# Altium integrated library Silicon Labs Automotive & Industrial MCUs.IntLib: 240 symbols (part 6 of 8)
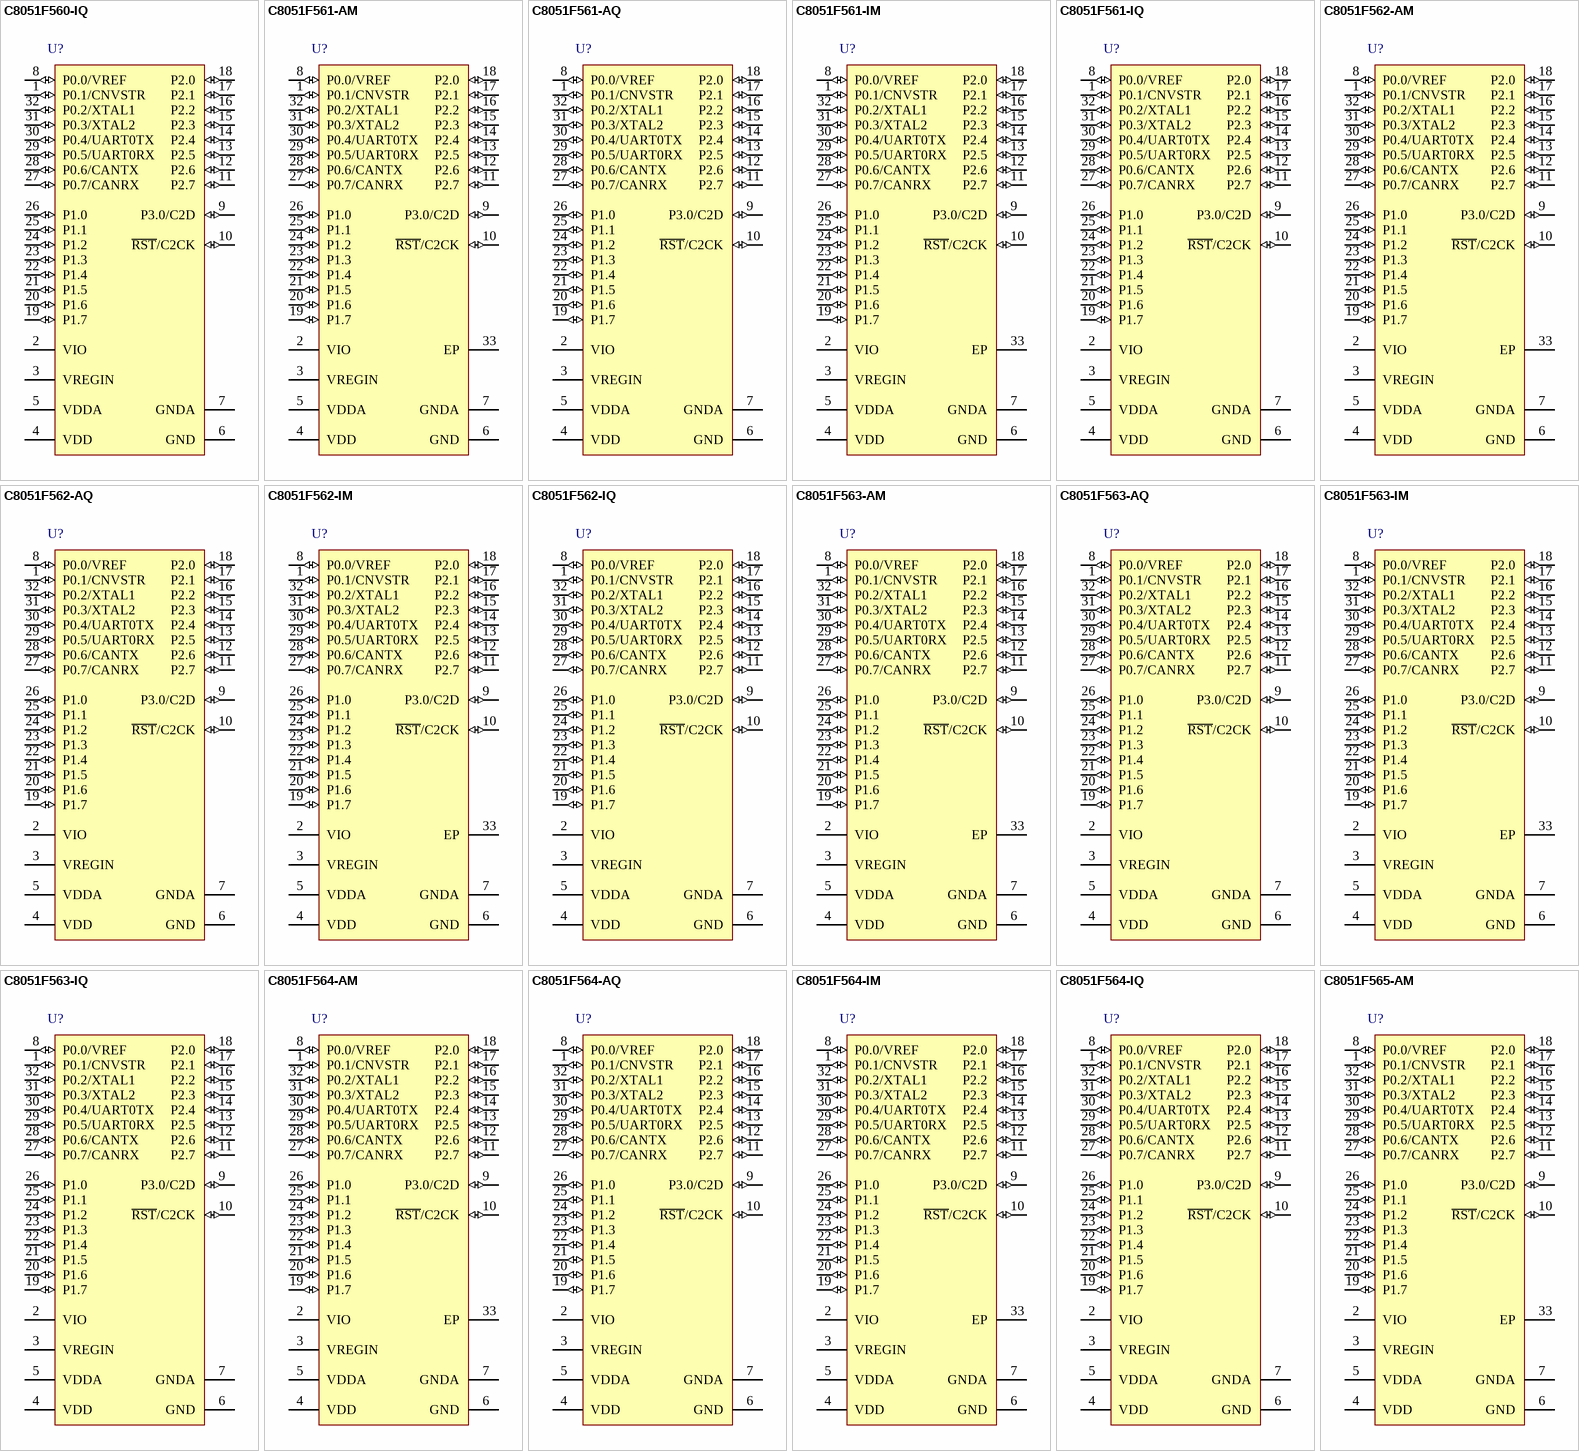
[diagram p18: symbols C8051F560-IQ to C8051F565-AM]

## C8051F563-IQ
designator U?
Mixed Signal 32KB Flash ISP MCU, 2304B RAM, 25 I/Os, 12-Bit 25 Channel ADC, I2C, 32-Pin QFP, Industrial Grade; Manufacturer: Silicon Labs; PartNumber: C8051F563-IQ; DatasheetVersion: rev1.1, 2011; PackageVersion: 2007; PackageReference: LQFP-32; PackageDescription: 32-Pin Thin Quad Flat Pack, 7 x 7 x 1.4 mm Body, 0.8 mm Pitch; Supplier 1: Digi-Key; Supplier Part Number 1: 336-1700-ND; Supplier 2: Mouser; Supplier Part Number 2: 634-C8051F563-IQ; ComponentLink1Description: Manufacturer URL; ComponentLink1URL: http://www.silabs.com; ComponentLink2Description: Datasheet; ComponentLink2URL: http://www.silabs.com/Support%20Documents/TechnicalDocs/C8051F55x-F56x-F57x.pdf
footprint LQFP-32_N (Thin QFP, 32-Leads, Body 7x7mm, Pitch 0.8mm, IPC Medium Density)
footprint LQFP-32_L (Thin QFP, 32-Leads, Body 7x7mm, Pitch 0.8mm, IPC High Density)
footprint LQFP-32_M (Thin QFP, 32-Leads, Body 7x7mm, Pitch 0.8mm, IPC Low Density)
pins: 1 P0.1/CNVSTR (io), 2 VIO (power), 3 VREGIN (power), 4 VDD (power), 5 VDDA (power), 6 GND (power), 7 GNDA (power), 8 P0.0/VREF (io), 9 P3.0/C2D (io), 10 ~{RST}/C2CK (io), 11 P2.7 (io), 12 P2.6 (io), 13 P2.5 (io), 14 P2.4 (io), 15 P2.3 (io), 16 P2.2 (io), 17 P2.1 (io), 18 P2.0 (io), 19 P1.7 (io), 20 P1.6 (io), 21 P1.5 (io), 22 P1.4 (io), 23 P1.3 (io), 24 P1.2 (io), 25 P1.1 (io), 26 P1.0 (io), 27 P0.7/CANRX (io), 28 P0.6/CANTX (io), 29 P0.5/UART0RX (io), 30 P0.4/UART0TX (io), 31 P0.3/XTAL2 (io), 32 P0.2/XTAL1 (io)

## C8051F564-AM
designator U?
Mixed Signal 16KB Flash ISP MCU, 2304B RAM, 25 I/Os, 12-Bit 25 Channel ADC, CAN 2.0, LIN 2.1, 32-Pin QFN, Automotive Grade; Manufacturer: Silicon Labs; PartNumber: C8051F564-AM; DatasheetVersion: rev1.1, 2011; PackageVersion: 2011; PackageReference: QFN-32; PackageDescription: 32-Pin Quad Flat No-Lead, 5 x 5 x 0.9 mm Body, 0.5 mm Pitch; Code_JEDEC: MO-220-VHHD; ComponentLink1Description: Manufacturer URL; ComponentLink1URL: http://www.silabs.com; ComponentLink2Description: Datasheet; ComponentLink2URL: http://www.silabs.com/Support%20Documents/TechnicalDocs/C8051F55x-F56x-F57x.pdf
footprint QFN-32_V (QFN, 32-Leads, Body 5x5mm, Pitch 0.5mm, Thermal Pad 3.3x3.3mm, Silicon Labs Recommended)
pins: 1 P0.1/CNVSTR (io), 2 VIO (power), 3 VREGIN (power), 4 VDD (power), 5 VDDA (power), 6 GND (power), 7 GNDA (power), 8 P0.0/VREF (io), 9 P3.0/C2D (io), 10 ~{RST}/C2CK (io), 11 P2.7 (io), 12 P2.6 (io), 13 P2.5 (io), 14 P2.4 (io), 15 P2.3 (io), 16 P2.2 (io), 17 P2.1 (io), 18 P2.0 (io), 19 P1.7 (io), 20 P1.6 (io), 21 P1.5 (io), 22 P1.4 (io), 23 P1.3 (io), 24 P1.2 (io), 25 P1.1 (io), 26 P1.0 (io), 27 P0.7/CANRX (io), 28 P0.6/CANTX (io), 29 P0.5/UART0RX (io), 30 P0.4/UART0TX (io), 31 P0.3/XTAL2 (io), 32 P0.2/XTAL1 (io), 33 EP (power)

## C8051F564-AQ
designator U?
Mixed Signal 16KB Flash ISP MCU, 2304B RAM, 25 I/Os, 12-Bit 25 Channel ADC, CAN 2.0, LIN 2.1, 32-Pin QFP, Automotive Grade; Manufacturer: Silicon Labs; PartNumber: C8051F564-AQ; DatasheetVersion: rev1.1, 2011; PackageVersion: 2007; PackageReference: LQFP-32; PackageDescription: 32-Pin Thin Quad Flat Pack, 7 x 7 x 1.4 mm Body, 0.8 mm Pitch; ComponentLink1Description: Manufacturer URL; ComponentLink1URL: http://www.silabs.com; ComponentLink2Description: Datasheet; ComponentLink2URL: http://www.silabs.com/Support%20Documents/TechnicalDocs/C8051F55x-F56x-F57x.pdf
footprint LQFP-32_N (Thin QFP, 32-Leads, Body 7x7mm, Pitch 0.8mm, IPC Medium Density)
footprint LQFP-32_L (Thin QFP, 32-Leads, Body 7x7mm, Pitch 0.8mm, IPC High Density)
footprint LQFP-32_M (Thin QFP, 32-Leads, Body 7x7mm, Pitch 0.8mm, IPC Low Density)
pins: 1 P0.1/CNVSTR (io), 2 VIO (power), 3 VREGIN (power), 4 VDD (power), 5 VDDA (power), 6 GND (power), 7 GNDA (power), 8 P0.0/VREF (io), 9 P3.0/C2D (io), 10 ~{RST}/C2CK (io), 11 P2.7 (io), 12 P2.6 (io), 13 P2.5 (io), 14 P2.4 (io), 15 P2.3 (io), 16 P2.2 (io), 17 P2.1 (io), 18 P2.0 (io), 19 P1.7 (io), 20 P1.6 (io), 21 P1.5 (io), 22 P1.4 (io), 23 P1.3 (io), 24 P1.2 (io), 25 P1.1 (io), 26 P1.0 (io), 27 P0.7/CANRX (io), 28 P0.6/CANTX (io), 29 P0.5/UART0RX (io), 30 P0.4/UART0TX (io), 31 P0.3/XTAL2 (io), 32 P0.2/XTAL1 (io)

## C8051F564-IM
designator U?
Mixed Signal 16KB Flash ISP MCU, 2304B RAM, 25 I/Os, 12-Bit 25 Channel ADC, CAN 2.0, LIN 2.1, 32-Pin QFN, Industrial Grade; Manufacturer: Silicon Labs; PartNumber: C8051F564-IM; DatasheetVersion: rev1.1, 2011; PackageVersion: 2011; PackageReference: QFN-32; PackageDescription: 32-Pin Quad Flat No-Lead, 5 x 5 x 0.9 mm Body, 0.5 mm Pitch; Supplier 1: Digi-Key; Supplier Part Number 1: 336-1701-5-ND; Supplier 2: Mouser; Supplier Part Number 2: 634-C8051F564-IM; Code_JEDEC: MO-220-VHHD; ComponentLink1Description: Manufacturer URL; ComponentLink1URL: http://www.silabs.com; ComponentLink2Description: Datasheet; ComponentLink2URL: http://www.silabs.com/Support%20Documents/TechnicalDocs/C8051F55x-F56x-F57x.pdf
footprint QFN-32_V (QFN, 32-Leads, Body 5x5mm, Pitch 0.5mm, Thermal Pad 3.3x3.3mm, Silicon Labs Recommended)
pins: 1 P0.1/CNVSTR (io), 2 VIO (power), 3 VREGIN (power), 4 VDD (power), 5 VDDA (power), 6 GND (power), 7 GNDA (power), 8 P0.0/VREF (io), 9 P3.0/C2D (io), 10 ~{RST}/C2CK (io), 11 P2.7 (io), 12 P2.6 (io), 13 P2.5 (io), 14 P2.4 (io), 15 P2.3 (io), 16 P2.2 (io), 17 P2.1 (io), 18 P2.0 (io), 19 P1.7 (io), 20 P1.6 (io), 21 P1.5 (io), 22 P1.4 (io), 23 P1.3 (io), 24 P1.2 (io), 25 P1.1 (io), 26 P1.0 (io), 27 P0.7/CANRX (io), 28 P0.6/CANTX (io), 29 P0.5/UART0RX (io), 30 P0.4/UART0TX (io), 31 P0.3/XTAL2 (io), 32 P0.2/XTAL1 (io), 33 EP (power)

## C8051F564-IQ
designator U?
Mixed Signal 16KB Flash ISP MCU, 2304B RAM, 25 I/Os, 12-Bit 25 Channel ADC, CAN 2.0, LIN 2.1, 32-Pin QFP, Industrial Grade; Manufacturer: Silicon Labs; PartNumber: C8051F564-IQ; DatasheetVersion: rev1.1, 2011; PackageVersion: 2007; PackageReference: LQFP-32; PackageDescription: 32-Pin Thin Quad Flat Pack, 7 x 7 x 1.4 mm Body, 0.8 mm Pitch; Supplier 1: Digi-Key; Supplier Part Number 1: 336-1702-ND; Supplier 2: Mouser; Supplier Part Number 2: 634-C8051F564-IQ; ComponentLink1Description: Manufacturer URL; ComponentLink1URL: http://www.silabs.com; ComponentLink2Description: Datasheet; ComponentLink2URL: http://www.silabs.com/Support%20Documents/TechnicalDocs/C8051F55x-F56x-F57x.pdf
footprint LQFP-32_N (Thin QFP, 32-Leads, Body 7x7mm, Pitch 0.8mm, IPC Medium Density)
footprint LQFP-32_L (Thin QFP, 32-Leads, Body 7x7mm, Pitch 0.8mm, IPC High Density)
footprint LQFP-32_M (Thin QFP, 32-Leads, Body 7x7mm, Pitch 0.8mm, IPC Low Density)
pins: 1 P0.1/CNVSTR (io), 2 VIO (power), 3 VREGIN (power), 4 VDD (power), 5 VDDA (power), 6 GND (power), 7 GNDA (power), 8 P0.0/VREF (io), 9 P3.0/C2D (io), 10 ~{RST}/C2CK (io), 11 P2.7 (io), 12 P2.6 (io), 13 P2.5 (io), 14 P2.4 (io), 15 P2.3 (io), 16 P2.2 (io), 17 P2.1 (io), 18 P2.0 (io), 19 P1.7 (io), 20 P1.6 (io), 21 P1.5 (io), 22 P1.4 (io), 23 P1.3 (io), 24 P1.2 (io), 25 P1.1 (io), 26 P1.0 (io), 27 P0.7/CANRX (io), 28 P0.6/CANTX (io), 29 P0.5/UART0RX (io), 30 P0.4/UART0TX (io), 31 P0.3/XTAL2 (io), 32 P0.2/XTAL1 (io)

## C8051F565-AM
designator U?
Mixed Signal 16KB Flash ISP MCU, 2304B RAM, 25 I/Os, 12-Bit 25 Channel ADC, CAN 2.0, 32-Pin QFN, Automotive Grade; Manufacturer: Silicon Labs; PartNumber: C8051F565-AM; DatasheetVersion: rev1.1, 2011; PackageVersion: 2011; PackageReference: QFN-32; PackageDescription: 32-Pin Quad Flat No-Lead, 5 x 5 x 0.9 mm Body, 0.5 mm Pitch; Code_JEDEC: MO-220-VHHD; ComponentLink1Description: Manufacturer URL; ComponentLink1URL: http://www.silabs.com; ComponentLink2Description: Datasheet; ComponentLink2URL: http://www.silabs.com/Support%20Documents/TechnicalDocs/C8051F55x-F56x-F57x.pdf
footprint QFN-32_V (QFN, 32-Leads, Body 5x5mm, Pitch 0.5mm, Thermal Pad 3.3x3.3mm, Silicon Labs Recommended)
pins: 1 P0.1/CNVSTR (io), 2 VIO (power), 3 VREGIN (power), 4 VDD (power), 5 VDDA (power), 6 GND (power), 7 GNDA (power), 8 P0.0/VREF (io), 9 P3.0/C2D (io), 10 ~{RST}/C2CK (io), 11 P2.7 (io), 12 P2.6 (io), 13 P2.5 (io), 14 P2.4 (io), 15 P2.3 (io), 16 P2.2 (io), 17 P2.1 (io), 18 P2.0 (io), 19 P1.7 (io), 20 P1.6 (io), 21 P1.5 (io), 22 P1.4 (io), 23 P1.3 (io), 24 P1.2 (io), 25 P1.1 (io), 26 P1.0 (io), 27 P0.7/CANRX (io), 28 P0.6/CANTX (io), 29 P0.5/UART0RX (io), 30 P0.4/UART0TX (io), 31 P0.3/XTAL2 (io), 32 P0.2/XTAL1 (io), 33 EP (power)

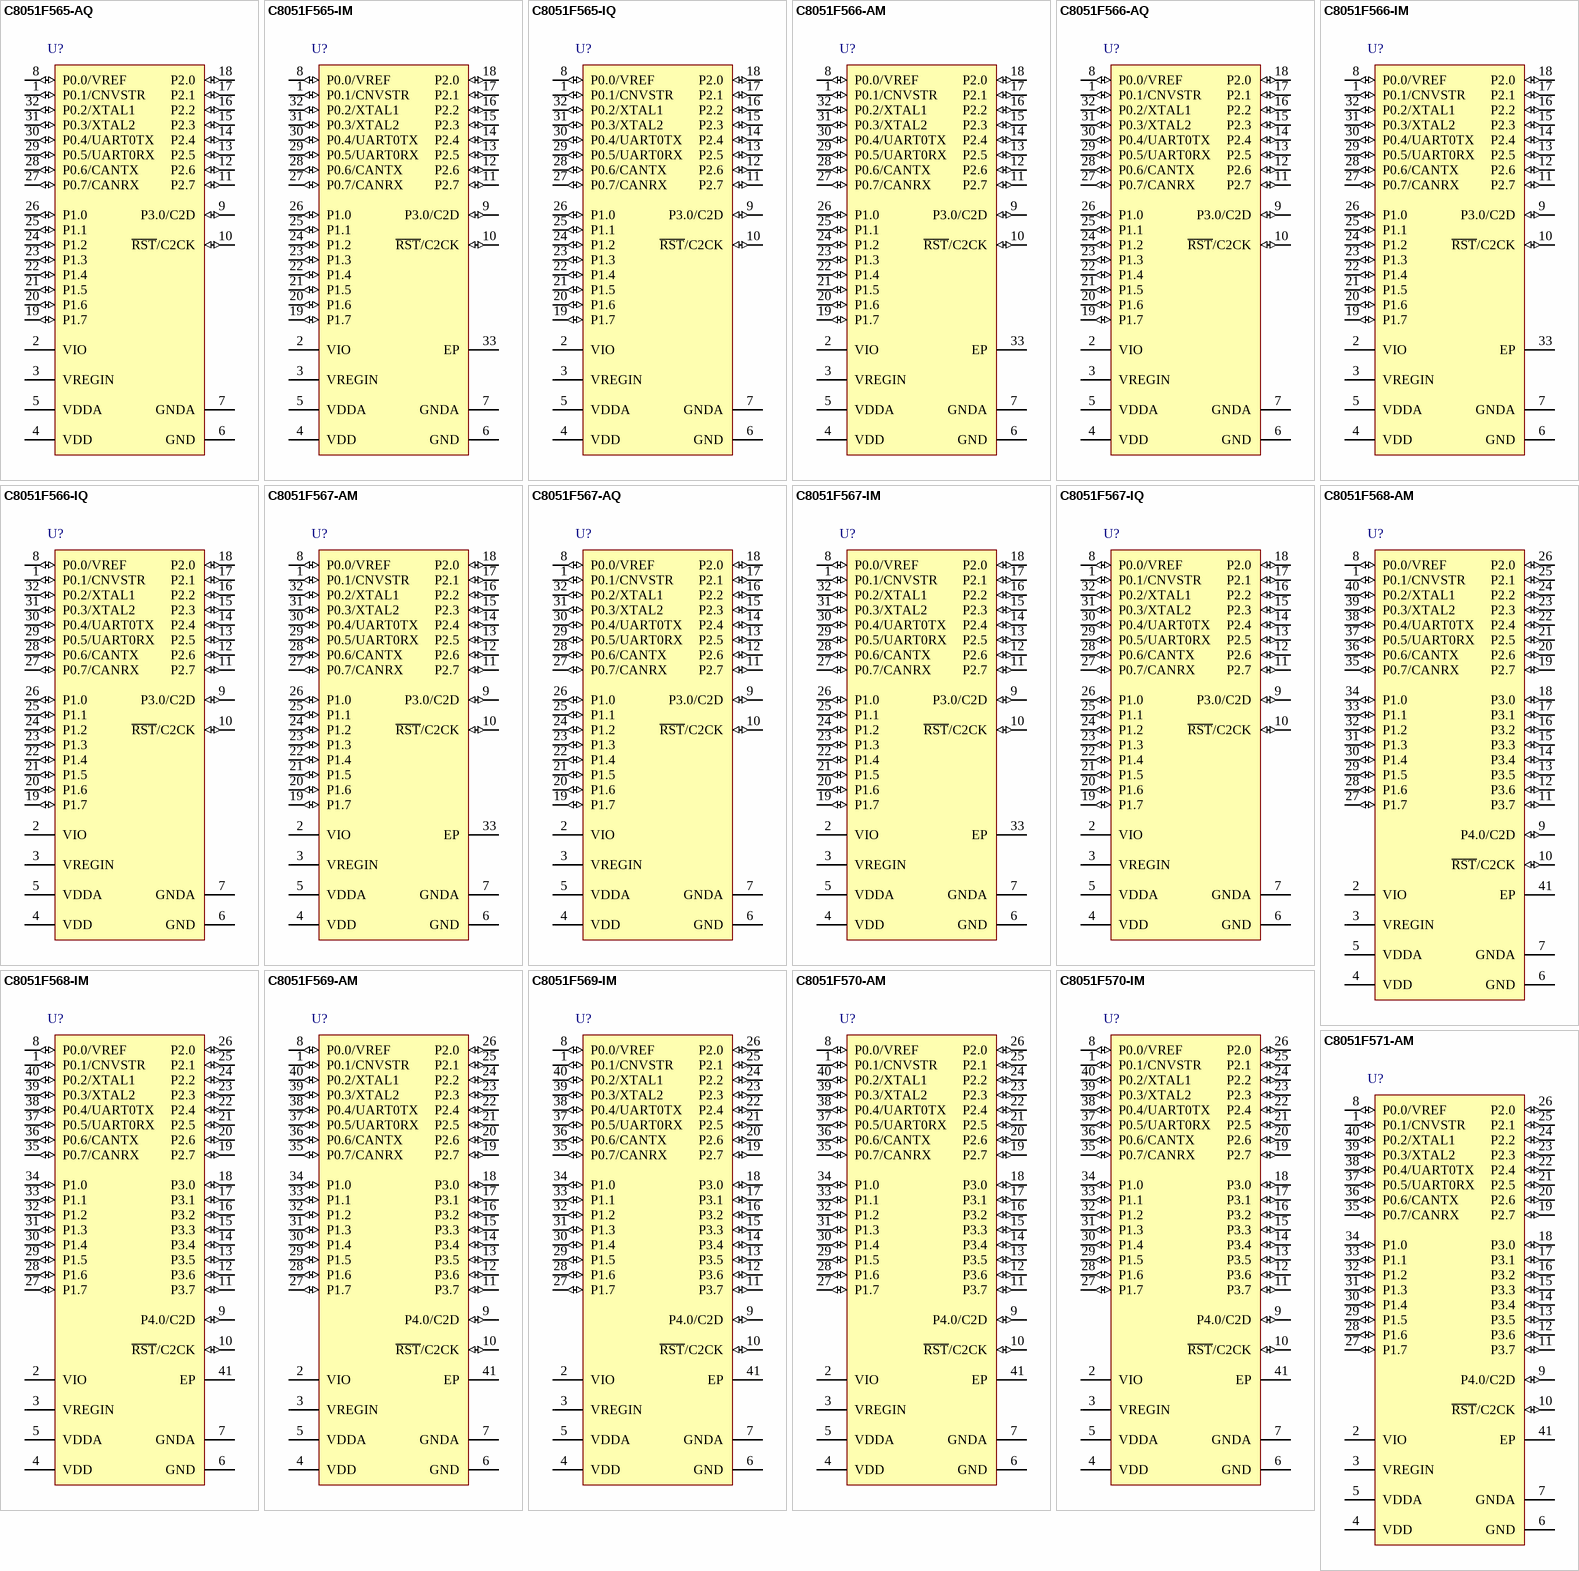
[diagram p9: symbols C8051F565-AQ to C8051F571-AM]

## C8051F565-AQ
designator U?
Mixed Signal 16KB Flash ISP MCU, 2304B RAM, 25 I/Os, 12-Bit 25 Channel ADC, CAN 2.0, 32-Pin QFP, Automotive Grade; Manufacturer: Silicon Labs; PartNumber: C8051F565-AQ; DatasheetVersion: rev1.1, 2011; PackageVersion: 2007; PackageReference: LQFP-32; PackageDescription: 32-Pin Thin Quad Flat Pack, 7 x 7 x 1.4 mm Body, 0.8 mm Pitch; ComponentLink1Description: Manufacturer URL; ComponentLink1URL: http://www.silabs.com; ComponentLink2Description: Datasheet; ComponentLink2URL: http://www.silabs.com/Support%20Documents/TechnicalDocs/C8051F55x-F56x-F57x.pdf
footprint LQFP-32_N (Thin QFP, 32-Leads, Body 7x7mm, Pitch 0.8mm, IPC Medium Density)
footprint LQFP-32_L (Thin QFP, 32-Leads, Body 7x7mm, Pitch 0.8mm, IPC High Density)
footprint LQFP-32_M (Thin QFP, 32-Leads, Body 7x7mm, Pitch 0.8mm, IPC Low Density)
pins: 1 P0.1/CNVSTR (io), 2 VIO (power), 3 VREGIN (power), 4 VDD (power), 5 VDDA (power), 6 GND (power), 7 GNDA (power), 8 P0.0/VREF (io), 9 P3.0/C2D (io), 10 ~{RST}/C2CK (io), 11 P2.7 (io), 12 P2.6 (io), 13 P2.5 (io), 14 P2.4 (io), 15 P2.3 (io), 16 P2.2 (io), 17 P2.1 (io), 18 P2.0 (io), 19 P1.7 (io), 20 P1.6 (io), 21 P1.5 (io), 22 P1.4 (io), 23 P1.3 (io), 24 P1.2 (io), 25 P1.1 (io), 26 P1.0 (io), 27 P0.7/CANRX (io), 28 P0.6/CANTX (io), 29 P0.5/UART0RX (io), 30 P0.4/UART0TX (io), 31 P0.3/XTAL2 (io), 32 P0.2/XTAL1 (io)

## C8051F565-IM
designator U?
Mixed Signal 16KB Flash ISP MCU, 2304B RAM, 25 I/Os, 12-Bit 25 Channel ADC, CAN 2.0, 32-Pin QFN, Industrial Grade; Manufacturer: Silicon Labs; PartNumber: C8051F565-IM; DatasheetVersion: rev1.1, 2011; PackageVersion: 2011; PackageReference: QFN-32; PackageDescription: 32-Pin Quad Flat No-Lead, 5 x 5 x 0.9 mm Body, 0.5 mm Pitch; Supplier 1: Digi-Key; Supplier Part Number 1: 336-1703-5-ND; Supplier 2: Mouser; Supplier Part Number 2: 634-C8051F565-IM; Code_JEDEC: MO-220-VHHD; ComponentLink1Description: Manufacturer URL; ComponentLink1URL: http://www.silabs.com; ComponentLink2Description: Datasheet; ComponentLink2URL: http://www.silabs.com/Support%20Documents/TechnicalDocs/C8051F55x-F56x-F57x.pdf
footprint QFN-32_V (QFN, 32-Leads, Body 5x5mm, Pitch 0.5mm, Thermal Pad 3.3x3.3mm, Silicon Labs Recommended)
pins: 1 P0.1/CNVSTR (io), 2 VIO (power), 3 VREGIN (power), 4 VDD (power), 5 VDDA (power), 6 GND (power), 7 GNDA (power), 8 P0.0/VREF (io), 9 P3.0/C2D (io), 10 ~{RST}/C2CK (io), 11 P2.7 (io), 12 P2.6 (io), 13 P2.5 (io), 14 P2.4 (io), 15 P2.3 (io), 16 P2.2 (io), 17 P2.1 (io), 18 P2.0 (io), 19 P1.7 (io), 20 P1.6 (io), 21 P1.5 (io), 22 P1.4 (io), 23 P1.3 (io), 24 P1.2 (io), 25 P1.1 (io), 26 P1.0 (io), 27 P0.7/CANRX (io), 28 P0.6/CANTX (io), 29 P0.5/UART0RX (io), 30 P0.4/UART0TX (io), 31 P0.3/XTAL2 (io), 32 P0.2/XTAL1 (io), 33 EP (power)

## C8051F565-IQ
designator U?
Mixed Signal 16KB Flash ISP MCU, 2304B RAM, 25 I/Os, 12-Bit 25 Channel ADC, CAN 2.0, 32-Pin QFP, Industrial Grade; Manufacturer: Silicon Labs; PartNumber: C8051F565-IQ; DatasheetVersion: rev1.1, 2011; PackageVersion: 2007; PackageReference: LQFP-32; PackageDescription: 32-Pin Thin Quad Flat Pack, 7 x 7 x 1.4 mm Body, 0.8 mm Pitch; Supplier 1: Digi-Key; Supplier Part Number 1: 336-1704-ND; Supplier 2: Mouser; Supplier Part Number 2: 634-C8051F565-IQ; ComponentLink1Description: Manufacturer URL; ComponentLink1URL: http://www.silabs.com; ComponentLink2Description: Datasheet; ComponentLink2URL: http://www.silabs.com/Support%20Documents/TechnicalDocs/C8051F55x-F56x-F57x.pdf
footprint LQFP-32_N (Thin QFP, 32-Leads, Body 7x7mm, Pitch 0.8mm, IPC Medium Density)
footprint LQFP-32_L (Thin QFP, 32-Leads, Body 7x7mm, Pitch 0.8mm, IPC High Density)
footprint LQFP-32_M (Thin QFP, 32-Leads, Body 7x7mm, Pitch 0.8mm, IPC Low Density)
pins: 1 P0.1/CNVSTR (io), 2 VIO (power), 3 VREGIN (power), 4 VDD (power), 5 VDDA (power), 6 GND (power), 7 GNDA (power), 8 P0.0/VREF (io), 9 P3.0/C2D (io), 10 ~{RST}/C2CK (io), 11 P2.7 (io), 12 P2.6 (io), 13 P2.5 (io), 14 P2.4 (io), 15 P2.3 (io), 16 P2.2 (io), 17 P2.1 (io), 18 P2.0 (io), 19 P1.7 (io), 20 P1.6 (io), 21 P1.5 (io), 22 P1.4 (io), 23 P1.3 (io), 24 P1.2 (io), 25 P1.1 (io), 26 P1.0 (io), 27 P0.7/CANRX (io), 28 P0.6/CANTX (io), 29 P0.5/UART0RX (io), 30 P0.4/UART0TX (io), 31 P0.3/XTAL2 (io), 32 P0.2/XTAL1 (io)

## C8051F566-AM
designator U?
Mixed Signal 16KB Flash ISP MCU, 2304B RAM, 25 I/Os, 12-Bit 25 Channel ADC, LIN 2.1, 32-Pin QFN, Automotive Grade; Manufacturer: Silicon Labs; PartNumber: C8051F566-AM; DatasheetVersion: rev1.1, 2011; PackageVersion: 2011; PackageReference: QFN-32; PackageDescription: 32-Pin Quad Flat No-Lead, 5 x 5 x 0.9 mm Body, 0.5 mm Pitch; Code_JEDEC: MO-220-VHHD; ComponentLink1Description: Manufacturer URL; ComponentLink1URL: http://www.silabs.com; ComponentLink2Description: Datasheet; ComponentLink2URL: http://www.silabs.com/Support%20Documents/TechnicalDocs/C8051F55x-F56x-F57x.pdf
footprint QFN-32_V (QFN, 32-Leads, Body 5x5mm, Pitch 0.5mm, Thermal Pad 3.3x3.3mm, Silicon Labs Recommended)
pins: 1 P0.1/CNVSTR (io), 2 VIO (power), 3 VREGIN (power), 4 VDD (power), 5 VDDA (power), 6 GND (power), 7 GNDA (power), 8 P0.0/VREF (io), 9 P3.0/C2D (io), 10 ~{RST}/C2CK (io), 11 P2.7 (io), 12 P2.6 (io), 13 P2.5 (io), 14 P2.4 (io), 15 P2.3 (io), 16 P2.2 (io), 17 P2.1 (io), 18 P2.0 (io), 19 P1.7 (io), 20 P1.6 (io), 21 P1.5 (io), 22 P1.4 (io), 23 P1.3 (io), 24 P1.2 (io), 25 P1.1 (io), 26 P1.0 (io), 27 P0.7/CANRX (io), 28 P0.6/CANTX (io), 29 P0.5/UART0RX (io), 30 P0.4/UART0TX (io), 31 P0.3/XTAL2 (io), 32 P0.2/XTAL1 (io), 33 EP (power)

## C8051F566-AQ
designator U?
Mixed Signal 16KB Flash ISP MCU, 2304B RAM, 25 I/Os, 12-Bit 25 Channel ADC, LIN 2.1, 32-Pin QFP, Automotive Grade; Manufacturer: Silicon Labs; PartNumber: C8051F566-AQ; DatasheetVersion: rev1.1, 2011; PackageVersion: 2007; PackageReference: LQFP-32; PackageDescription: 32-Pin Thin Quad Flat Pack, 7 x 7 x 1.4 mm Body, 0.8 mm Pitch; ComponentLink1Description: Manufacturer URL; ComponentLink1URL: http://www.silabs.com; ComponentLink2Description: Datasheet; ComponentLink2URL: http://www.silabs.com/Support%20Documents/TechnicalDocs/C8051F55x-F56x-F57x.pdf
footprint LQFP-32_N (Thin QFP, 32-Leads, Body 7x7mm, Pitch 0.8mm, IPC Medium Density)
footprint LQFP-32_L (Thin QFP, 32-Leads, Body 7x7mm, Pitch 0.8mm, IPC High Density)
footprint LQFP-32_M (Thin QFP, 32-Leads, Body 7x7mm, Pitch 0.8mm, IPC Low Density)
pins: 1 P0.1/CNVSTR (io), 2 VIO (power), 3 VREGIN (power), 4 VDD (power), 5 VDDA (power), 6 GND (power), 7 GNDA (power), 8 P0.0/VREF (io), 9 P3.0/C2D (io), 10 ~{RST}/C2CK (io), 11 P2.7 (io), 12 P2.6 (io), 13 P2.5 (io), 14 P2.4 (io), 15 P2.3 (io), 16 P2.2 (io), 17 P2.1 (io), 18 P2.0 (io), 19 P1.7 (io), 20 P1.6 (io), 21 P1.5 (io), 22 P1.4 (io), 23 P1.3 (io), 24 P1.2 (io), 25 P1.1 (io), 26 P1.0 (io), 27 P0.7/CANRX (io), 28 P0.6/CANTX (io), 29 P0.5/UART0RX (io), 30 P0.4/UART0TX (io), 31 P0.3/XTAL2 (io), 32 P0.2/XTAL1 (io)

## C8051F566-IM
designator U?
Mixed Signal 16KB Flash ISP MCU, 2304B RAM, 25 I/Os, 12-Bit 25 Channel ADC, I2C, LIN 2.1, 32-Pin QFN, Industrial Grade; Manufacturer: Silicon Labs; PartNumber: C8051F566-IM; DatasheetVersion: rev1.1, 2011; PackageVersion: 2011; PackageReference: QFN-32; PackageDescription: 32-Pin Quad Flat No-Lead, 5 x 5 x 0.9 mm Body, 0.5 mm Pitch; Supplier 1: Digi-Key; Supplier Part Number 1: 336-1705-5-ND; Supplier 2: Mouser; Supplier Part Number 2: 634-C8051F566-IM; Code_JEDEC: MO-220-VHHD; ComponentLink1Description: Manufacturer URL; ComponentLink1URL: http://www.silabs.com; ComponentLink2Description: Datasheet; ComponentLink2URL: http://www.silabs.com/Support%20Documents/TechnicalDocs/C8051F55x-F56x-F57x.pdf
footprint QFN-32_V (QFN, 32-Leads, Body 5x5mm, Pitch 0.5mm, Thermal Pad 3.3x3.3mm, Silicon Labs Recommended)
pins: 1 P0.1/CNVSTR (io), 2 VIO (power), 3 VREGIN (power), 4 VDD (power), 5 VDDA (power), 6 GND (power), 7 GNDA (power), 8 P0.0/VREF (io), 9 P3.0/C2D (io), 10 ~{RST}/C2CK (io), 11 P2.7 (io), 12 P2.6 (io), 13 P2.5 (io), 14 P2.4 (io), 15 P2.3 (io), 16 P2.2 (io), 17 P2.1 (io), 18 P2.0 (io), 19 P1.7 (io), 20 P1.6 (io), 21 P1.5 (io), 22 P1.4 (io), 23 P1.3 (io), 24 P1.2 (io), 25 P1.1 (io), 26 P1.0 (io), 27 P0.7/CANRX (io), 28 P0.6/CANTX (io), 29 P0.5/UART0RX (io), 30 P0.4/UART0TX (io), 31 P0.3/XTAL2 (io), 32 P0.2/XTAL1 (io), 33 EP (power)

## C8051F566-IQ
designator U?
Mixed Signal 16KB Flash ISP MCU, 2304B RAM, 25 I/Os, 12-Bit 25 Channel ADC, I2C, LIN 2.1, 32-Pin QFP, Industrial Grade; Manufacturer: Silicon Labs; PartNumber: C8051F566-IQ; DatasheetVersion: rev1.1, 2011; PackageVersion: 2007; PackageReference: LQFP-32; PackageDescription: 32-Pin Thin Quad Flat Pack, 7 x 7 x 1.4 mm Body, 0.8 mm Pitch; Supplier 1: Digi-Key; Supplier Part Number 1: 336-1706-ND; Supplier 2: Mouser; Supplier Part Number 2: 634-C8051F566-IQ; ComponentLink1Description: Manufacturer URL; ComponentLink1URL: http://www.silabs.com; ComponentLink2Description: Datasheet; ComponentLink2URL: http://www.silabs.com/Support%20Documents/TechnicalDocs/C8051F55x-F56x-F57x.pdf
footprint LQFP-32_N (Thin QFP, 32-Leads, Body 7x7mm, Pitch 0.8mm, IPC Medium Density)
footprint LQFP-32_L (Thin QFP, 32-Leads, Body 7x7mm, Pitch 0.8mm, IPC High Density)
footprint LQFP-32_M (Thin QFP, 32-Leads, Body 7x7mm, Pitch 0.8mm, IPC Low Density)
pins: 1 P0.1/CNVSTR (io), 2 VIO (power), 3 VREGIN (power), 4 VDD (power), 5 VDDA (power), 6 GND (power), 7 GNDA (power), 8 P0.0/VREF (io), 9 P3.0/C2D (io), 10 ~{RST}/C2CK (io), 11 P2.7 (io), 12 P2.6 (io), 13 P2.5 (io), 14 P2.4 (io), 15 P2.3 (io), 16 P2.2 (io), 17 P2.1 (io), 18 P2.0 (io), 19 P1.7 (io), 20 P1.6 (io), 21 P1.5 (io), 22 P1.4 (io), 23 P1.3 (io), 24 P1.2 (io), 25 P1.1 (io), 26 P1.0 (io), 27 P0.7/CANRX (io), 28 P0.6/CANTX (io), 29 P0.5/UART0RX (io), 30 P0.4/UART0TX (io), 31 P0.3/XTAL2 (io), 32 P0.2/XTAL1 (io)

## C8051F567-AM
designator U?
Mixed Signal 16KB Flash ISP MCU, 2304B RAM, 25 I/Os, 12-Bit 25 Channel ADC, SPI, 32-Pin QFN, Automotive Grade; Manufacturer: Silicon Labs; PartNumber: C8051F567-AM; DatasheetVersion: rev1.1, 2011; PackageVersion: 2011; PackageReference: QFN-32; PackageDescription: 32-Pin Quad Flat No-Lead, 5 x 5 x 0.9 mm Body, 0.5 mm Pitch; Code_JEDEC: MO-220-VHHD; ComponentLink1Description: Manufacturer URL; ComponentLink1URL: http://www.silabs.com; ComponentLink2Description: Datasheet; ComponentLink2URL: http://www.silabs.com/Support%20Documents/TechnicalDocs/C8051F55x-F56x-F57x.pdf
footprint QFN-32_V (QFN, 32-Leads, Body 5x5mm, Pitch 0.5mm, Thermal Pad 3.3x3.3mm, Silicon Labs Recommended)
pins: 1 P0.1/CNVSTR (io), 2 VIO (power), 3 VREGIN (power), 4 VDD (power), 5 VDDA (power), 6 GND (power), 7 GNDA (power), 8 P0.0/VREF (io), 9 P3.0/C2D (io), 10 ~{RST}/C2CK (io), 11 P2.7 (io), 12 P2.6 (io), 13 P2.5 (io), 14 P2.4 (io), 15 P2.3 (io), 16 P2.2 (io), 17 P2.1 (io), 18 P2.0 (io), 19 P1.7 (io), 20 P1.6 (io), 21 P1.5 (io), 22 P1.4 (io), 23 P1.3 (io), 24 P1.2 (io), 25 P1.1 (io), 26 P1.0 (io), 27 P0.7/CANRX (io), 28 P0.6/CANTX (io), 29 P0.5/UART0RX (io), 30 P0.4/UART0TX (io), 31 P0.3/XTAL2 (io), 32 P0.2/XTAL1 (io), 33 EP (power)

## C8051F567-AQ
designator U?
Mixed Signal 16KB Flash ISP MCU, 2304B RAM, 25 I/Os, 12-Bit 25 Channel ADC, SPI, 32-Pin QFP, Automotive Grade; Manufacturer: Silicon Labs; PartNumber: C8051F567-AQ; DatasheetVersion: rev1.1, 2011; PackageVersion: 2007; PackageReference: LQFP-32; PackageDescription: 32-Pin Thin Quad Flat Pack, 7 x 7 x 1.4 mm Body, 0.8 mm Pitch; ComponentLink1Description: Manufacturer URL; ComponentLink1URL: http://www.silabs.com; ComponentLink2Description: Datasheet; ComponentLink2URL: http://www.silabs.com/Support%20Documents/TechnicalDocs/C8051F55x-F56x-F57x.pdf
footprint LQFP-32_N (Thin QFP, 32-Leads, Body 7x7mm, Pitch 0.8mm, IPC Medium Density)
footprint LQFP-32_L (Thin QFP, 32-Leads, Body 7x7mm, Pitch 0.8mm, IPC High Density)
footprint LQFP-32_M (Thin QFP, 32-Leads, Body 7x7mm, Pitch 0.8mm, IPC Low Density)
pins: 1 P0.1/CNVSTR (io), 2 VIO (power), 3 VREGIN (power), 4 VDD (power), 5 VDDA (power), 6 GND (power), 7 GNDA (power), 8 P0.0/VREF (io), 9 P3.0/C2D (io), 10 ~{RST}/C2CK (io), 11 P2.7 (io), 12 P2.6 (io), 13 P2.5 (io), 14 P2.4 (io), 15 P2.3 (io), 16 P2.2 (io), 17 P2.1 (io), 18 P2.0 (io), 19 P1.7 (io), 20 P1.6 (io), 21 P1.5 (io), 22 P1.4 (io), 23 P1.3 (io), 24 P1.2 (io), 25 P1.1 (io), 26 P1.0 (io), 27 P0.7/CANRX (io), 28 P0.6/CANTX (io), 29 P0.5/UART0RX (io), 30 P0.4/UART0TX (io), 31 P0.3/XTAL2 (io), 32 P0.2/XTAL1 (io)

## C8051F567-IM
designator U?
Mixed Signal 16KB Flash ISP MCU, 2304B RAM, 25 I/Os, 12-Bit 25 Channel ADC, I2C, 32-Pin QFN, Industrial Grade; Manufacturer: Silicon Labs; PartNumber: C8051F567-IM; DatasheetVersion: rev1.1, 2011; PackageVersion: 2011; PackageReference: QFN-32; PackageDescription: 32-Pin Quad Flat No-Lead, 5 x 5 x 0.9 mm Body, 0.5 mm Pitch; Supplier 1: Digi-Key; Supplier Part Number 1: 336-1707-5-ND; Supplier 2: Mouser; Supplier Part Number 2: 634-C8051F567-IM; Code_JEDEC: MO-220-VHHD; ComponentLink1Description: Manufacturer URL; ComponentLink1URL: http://www.silabs.com; ComponentLink2Description: Datasheet; ComponentLink2URL: http://www.silabs.com/Support%20Documents/TechnicalDocs/C8051F55x-F56x-F57x.pdf
footprint QFN-32_V (QFN, 32-Leads, Body 5x5mm, Pitch 0.5mm, Thermal Pad 3.3x3.3mm, Silicon Labs Recommended)
pins: 1 P0.1/CNVSTR (io), 2 VIO (power), 3 VREGIN (power), 4 VDD (power), 5 VDDA (power), 6 GND (power), 7 GNDA (power), 8 P0.0/VREF (io), 9 P3.0/C2D (io), 10 ~{RST}/C2CK (io), 11 P2.7 (io), 12 P2.6 (io), 13 P2.5 (io), 14 P2.4 (io), 15 P2.3 (io), 16 P2.2 (io), 17 P2.1 (io), 18 P2.0 (io), 19 P1.7 (io), 20 P1.6 (io), 21 P1.5 (io), 22 P1.4 (io), 23 P1.3 (io), 24 P1.2 (io), 25 P1.1 (io), 26 P1.0 (io), 27 P0.7/CANRX (io), 28 P0.6/CANTX (io), 29 P0.5/UART0RX (io), 30 P0.4/UART0TX (io), 31 P0.3/XTAL2 (io), 32 P0.2/XTAL1 (io), 33 EP (power)

## C8051F567-IQ
designator U?
Mixed Signal 16KB Flash ISP MCU, 2304B RAM, 25 I/Os, 12-Bit 25 Channel ADC, I2C, 32-Pin QFP, Industrial Grade; Manufacturer: Silicon Labs; PartNumber: C8051F567-IQ; DatasheetVersion: rev1.1, 2011; PackageVersion: 2007; PackageReference: LQFP-32; PackageDescription: 32-Pin Thin Quad Flat Pack, 7 x 7 x 1.4 mm Body, 0.8 mm Pitch; Supplier 1: Digi-Key; Supplier Part Number 1: 336-1708-ND; Supplier 2: Mouser; Supplier Part Number 2: 634-C8051F567-IQ; ComponentLink1Description: Manufacturer URL; ComponentLink1URL: http://www.silabs.com; ComponentLink2Description: Datasheet; ComponentLink2URL: http://www.silabs.com/Support%20Documents/TechnicalDocs/C8051F55x-F56x-F57x.pdf
footprint LQFP-32_N (Thin QFP, 32-Leads, Body 7x7mm, Pitch 0.8mm, IPC Medium Density)
footprint LQFP-32_L (Thin QFP, 32-Leads, Body 7x7mm, Pitch 0.8mm, IPC High Density)
footprint LQFP-32_M (Thin QFP, 32-Leads, Body 7x7mm, Pitch 0.8mm, IPC Low Density)
pins: 1 P0.1/CNVSTR (io), 2 VIO (power), 3 VREGIN (power), 4 VDD (power), 5 VDDA (power), 6 GND (power), 7 GNDA (power), 8 P0.0/VREF (io), 9 P3.0/C2D (io), 10 ~{RST}/C2CK (io), 11 P2.7 (io), 12 P2.6 (io), 13 P2.5 (io), 14 P2.4 (io), 15 P2.3 (io), 16 P2.2 (io), 17 P2.1 (io), 18 P2.0 (io), 19 P1.7 (io), 20 P1.6 (io), 21 P1.5 (io), 22 P1.4 (io), 23 P1.3 (io), 24 P1.2 (io), 25 P1.1 (io), 26 P1.0 (io), 27 P0.7/CANRX (io), 28 P0.6/CANTX (io), 29 P0.5/UART0RX (io), 30 P0.4/UART0TX (io), 31 P0.3/XTAL2 (io), 32 P0.2/XTAL1 (io)

## C8051F568-AM
designator U?
Mixed Signal 32KB Flash ISP MCU, 2304B RAM, 33 I/Os, 12-Bit 32 Channel ADC, CAN 2.0, LIN 2.1, Ext Mem, 40-Pin QFN, Automotive Grade; Manufacturer: Silicon Labs; PartNumber: C8051F568-AM; DatasheetVersion: rev1.1, 2011; PackageVersion: 2011; PackageReference: QFN-40; PackageDescription: 40-Pin Quad Flat No-Lead, 6 x 6 x 0.85 mm Body, 0.5 mm Pitch; Code_JEDEC: MO-220-VJJD-5; ComponentLink1Description: Manufacturer URL; ComponentLink1URL: http://www.silabs.com; ComponentLink2Description: Datasheet; ComponentLink2URL: http://www.silabs.com/Support%20Documents/TechnicalDocs/C8051F55x-F56x-F57x.pdf
footprint QFN-40_V (QFN, 40-Leads, Body 6x6mm, Pitch 0.5mm, Thermal Pad 4.15x4.15mm, Silicon Labs Recommended)
pins: 1 P0.1/CNVSTR (io), 2 VIO (power), 3 VREGIN (power), 4 VDD (power), 5 VDDA (power), 6 GND (power), 7 GNDA (power), 8 P0.0/VREF (io), 9 P4.0/C2D (io), 10 ~{RST}/C2CK (io), 11 P3.7 (io), 12 P3.6 (io), 13 P3.5 (io), 14 P3.4 (io), 15 P3.3 (io), 16 P3.2 (io), 17 P3.1 (io), 18 P3.0 (io), 19 P2.7 (io), 20 P2.6 (io), 21 P2.5 (io), 22 P2.4 (io), 23 P2.3 (io), 24 P2.2 (io), 25 P2.1 (io), 26 P2.0 (io), 27 P1.7 (io), 28 P1.6 (io), 29 P1.5 (io), 30 P1.4 (io), 31 P1.3 (io), 32 P1.2 (io), 33 P1.1 (io), 34 P1.0 (io), 35 P0.7/CANRX (io), 36 P0.6/CANTX (io), 37 P0.5/UART0RX (io), 38 P0.4/UART0TX (io), 39 P0.3/XTAL2 (io), 40 P0.2/XTAL1 (io), 41 EP (power)

## C8051F568-IM
designator U?
Mixed Signal 32KB Flash ISP MCU, 2304B RAM, 33 I/Os, 12-Bit 32 Channel ADC, CAN 2.0, LIN 2.1, Ext Mem, 40-Pin QFN, Industrial Grade; Manufacturer: Silicon Labs; PartNumber: C8051F568-IM; DatasheetVersion: rev1.1, 2011; PackageVersion: 2011; PackageReference: QFN-40; PackageDescription: 40-Pin Quad Flat No-Lead, 6 x 6 x 0.85 mm Body, 0.5 mm Pitch; Supplier 1: Digi-Key; Supplier Part Number 1: 336-1709-5-ND; Supplier 2: Mouser; Supplier Part Number 2: 634-C8051F568-IM; Code_JEDEC: MO-220-VJJD-5; ComponentLink1Description: Manufacturer URL; ComponentLink1URL: http://www.silabs.com; ComponentLink2Description: Datasheet; ComponentLink2URL: http://www.silabs.com/Support%20Documents/TechnicalDocs/C8051F55x-F56x-F57x.pdf
footprint QFN-40_V (QFN, 40-Leads, Body 6x6mm, Pitch 0.5mm, Thermal Pad 4.15x4.15mm, Silicon Labs Recommended)
pins: 1 P0.1/CNVSTR (io), 2 VIO (power), 3 VREGIN (power), 4 VDD (power), 5 VDDA (power), 6 GND (power), 7 GNDA (power), 8 P0.0/VREF (io), 9 P4.0/C2D (io), 10 ~{RST}/C2CK (io), 11 P3.7 (io), 12 P3.6 (io), 13 P3.5 (io), 14 P3.4 (io), 15 P3.3 (io), 16 P3.2 (io), 17 P3.1 (io), 18 P3.0 (io), 19 P2.7 (io), 20 P2.6 (io), 21 P2.5 (io), 22 P2.4 (io), 23 P2.3 (io), 24 P2.2 (io), 25 P2.1 (io), 26 P2.0 (io), 27 P1.7 (io), 28 P1.6 (io), 29 P1.5 (io), 30 P1.4 (io), 31 P1.3 (io), 32 P1.2 (io), 33 P1.1 (io), 34 P1.0 (io), 35 P0.7/CANRX (io), 36 P0.6/CANTX (io), 37 P0.5/UART0RX (io), 38 P0.4/UART0TX (io), 39 P0.3/XTAL2 (io), 40 P0.2/XTAL1 (io), 41 EP (power)

## C8051F569-AM
designator U?
Mixed Signal 32KB Flash ISP MCU, 2304B RAM, 33 I/Os, 12-Bit 32 Channel ADC, CAN 2.0, Ext Mem, 40-Pin QFN, Automotive Grade; Manufacturer: Silicon Labs; PartNumber: C8051F569-AM; DatasheetVersion: rev1.1, 2011; PackageVersion: 2011; PackageReference: QFN-40; PackageDescription: 40-Pin Quad Flat No-Lead, 6 x 6 x 0.85 mm Body, 0.5 mm Pitch; Code_JEDEC: MO-220-VJJD-5; ComponentLink1Description: Manufacturer URL; ComponentLink1URL: http://www.silabs.com; ComponentLink2Description: Datasheet; ComponentLink2URL: http://www.silabs.com/Support%20Documents/TechnicalDocs/C8051F55x-F56x-F57x.pdf
footprint QFN-40_V (QFN, 40-Leads, Body 6x6mm, Pitch 0.5mm, Thermal Pad 4.15x4.15mm, Silicon Labs Recommended)
pins: 1 P0.1/CNVSTR (io), 2 VIO (power), 3 VREGIN (power), 4 VDD (power), 5 VDDA (power), 6 GND (power), 7 GNDA (power), 8 P0.0/VREF (io), 9 P4.0/C2D (io), 10 ~{RST}/C2CK (io), 11 P3.7 (io), 12 P3.6 (io), 13 P3.5 (io), 14 P3.4 (io), 15 P3.3 (io), 16 P3.2 (io), 17 P3.1 (io), 18 P3.0 (io), 19 P2.7 (io), 20 P2.6 (io), 21 P2.5 (io), 22 P2.4 (io), 23 P2.3 (io), 24 P2.2 (io), 25 P2.1 (io), 26 P2.0 (io), 27 P1.7 (io), 28 P1.6 (io), 29 P1.5 (io), 30 P1.4 (io), 31 P1.3 (io), 32 P1.2 (io), 33 P1.1 (io), 34 P1.0 (io), 35 P0.7/CANRX (io), 36 P0.6/CANTX (io), 37 P0.5/UART0RX (io), 38 P0.4/UART0TX (io), 39 P0.3/XTAL2 (io), 40 P0.2/XTAL1 (io), 41 EP (power)

## C8051F569-IM
designator U?
Mixed Signal 32KB Flash ISP MCU, 2304B RAM, 33 I/Os, 12-Bit 32 Channel ADC, CAN 2.0, Ext Mem, 40-Pin QFN, Industrial Grade; Manufacturer: Silicon Labs; PartNumber: C8051F569-IM; DatasheetVersion: rev1.1, 2011; PackageVersion: 2011; PackageReference: QFN-40; PackageDescription: 40-Pin Quad Flat No-Lead, 6 x 6 x 0.85 mm Body, 0.5 mm Pitch; Supplier 1: Digi-Key; Supplier Part Number 1: 336-1710-5-ND; Supplier 2: Mouser; Supplier Part Number 2: 634-C8051F569-IM; Code_JEDEC: MO-220-VJJD-5; ComponentLink1Description: Manufacturer URL; ComponentLink1URL: http://www.silabs.com; ComponentLink2Description: Datasheet; ComponentLink2URL: http://www.silabs.com/Support%20Documents/TechnicalDocs/C8051F55x-F56x-F57x.pdf
footprint QFN-40_V (QFN, 40-Leads, Body 6x6mm, Pitch 0.5mm, Thermal Pad 4.15x4.15mm, Silicon Labs Recommended)
pins: 1 P0.1/CNVSTR (io), 2 VIO (power), 3 VREGIN (power), 4 VDD (power), 5 VDDA (power), 6 GND (power), 7 GNDA (power), 8 P0.0/VREF (io), 9 P4.0/C2D (io), 10 ~{RST}/C2CK (io), 11 P3.7 (io), 12 P3.6 (io), 13 P3.5 (io), 14 P3.4 (io), 15 P3.3 (io), 16 P3.2 (io), 17 P3.1 (io), 18 P3.0 (io), 19 P2.7 (io), 20 P2.6 (io), 21 P2.5 (io), 22 P2.4 (io), 23 P2.3 (io), 24 P2.2 (io), 25 P2.1 (io), 26 P2.0 (io), 27 P1.7 (io), 28 P1.6 (io), 29 P1.5 (io), 30 P1.4 (io), 31 P1.3 (io), 32 P1.2 (io), 33 P1.1 (io), 34 P1.0 (io), 35 P0.7/CANRX (io), 36 P0.6/CANTX (io), 37 P0.5/UART0RX (io), 38 P0.4/UART0TX (io), 39 P0.3/XTAL2 (io), 40 P0.2/XTAL1 (io), 41 EP (power)

## C8051F570-AM
designator U?
Mixed Signal 32KB Flash ISP MCU, 2304B RAM, 33 I/Os, 12-Bit 32 Channel ADC, CAN 2.0, LIN 2.1, Ext Mem, 40-Pin QFN, Automotive Grade; Manufacturer: Silicon Labs; PartNumber: C8051F570-AM; DatasheetVersion: rev1.1, 2011; PackageVersion: 2011; PackageReference: QFN-40; PackageDescription: 40-Pin Quad Flat No-Lead, 6 x 6 x 0.85 mm Body, 0.5 mm Pitch; Code_JEDEC: MO-220-VJJD-5; ComponentLink1Description: Manufacturer URL; ComponentLink1URL: http://www.silabs.com; ComponentLink2Description: Datasheet; ComponentLink2URL: http://www.silabs.com/Support%20Documents/TechnicalDocs/C8051F55x-F56x-F57x.pdf
footprint QFN-40_V (QFN, 40-Leads, Body 6x6mm, Pitch 0.5mm, Thermal Pad 4.15x4.15mm, Silicon Labs Recommended)
pins: 1 P0.1/CNVSTR (io), 2 VIO (power), 3 VREGIN (power), 4 VDD (power), 5 VDDA (power), 6 GND (power), 7 GNDA (power), 8 P0.0/VREF (io), 9 P4.0/C2D (io), 10 ~{RST}/C2CK (io), 11 P3.7 (io), 12 P3.6 (io), 13 P3.5 (io), 14 P3.4 (io), 15 P3.3 (io), 16 P3.2 (io), 17 P3.1 (io), 18 P3.0 (io), 19 P2.7 (io), 20 P2.6 (io), 21 P2.5 (io), 22 P2.4 (io), 23 P2.3 (io), 24 P2.2 (io), 25 P2.1 (io), 26 P2.0 (io), 27 P1.7 (io), 28 P1.6 (io), 29 P1.5 (io), 30 P1.4 (io), 31 P1.3 (io), 32 P1.2 (io), 33 P1.1 (io), 34 P1.0 (io), 35 P0.7/CANRX (io), 36 P0.6/CANTX (io), 37 P0.5/UART0RX (io), 38 P0.4/UART0TX (io), 39 P0.3/XTAL2 (io), 40 P0.2/XTAL1 (io), 41 EP (power)

## C8051F570-IM
designator U?
Mixed Signal 32KB Flash ISP MCU, 2304B RAM, 33 I/Os, 12-Bit 32 Channel ADC, I2C, LIN 2.1, Ext Mem, 40-Pin QFN, Industrial Grade; Manufacturer: Silicon Labs; PartNumber: C8051F570-IM; DatasheetVersion: rev1.1, 2011; PackageVersion: 2011; PackageReference: QFN-40; PackageDescription: 40-Pin Quad Flat No-Lead, 6 x 6 x 0.85 mm Body, 0.5 mm Pitch; Supplier 1: Digi-Key; Supplier Part Number 1: 336-1711-5-ND; Supplier 2: Mouser; Supplier Part Number 2: 634-C8051F570-IM; Code_JEDEC: MO-220-VJJD-5; ComponentLink1Description: Manufacturer URL; ComponentLink1URL: http://www.silabs.com; ComponentLink2Description: Datasheet; ComponentLink2URL: http://www.silabs.com/Support%20Documents/TechnicalDocs/C8051F55x-F56x-F57x.pdf
footprint QFN-40_V (QFN, 40-Leads, Body 6x6mm, Pitch 0.5mm, Thermal Pad 4.15x4.15mm, Silicon Labs Recommended)
pins: 1 P0.1/CNVSTR (io), 2 VIO (power), 3 VREGIN (power), 4 VDD (power), 5 VDDA (power), 6 GND (power), 7 GNDA (power), 8 P0.0/VREF (io), 9 P4.0/C2D (io), 10 ~{RST}/C2CK (io), 11 P3.7 (io), 12 P3.6 (io), 13 P3.5 (io), 14 P3.4 (io), 15 P3.3 (io), 16 P3.2 (io), 17 P3.1 (io), 18 P3.0 (io), 19 P2.7 (io), 20 P2.6 (io), 21 P2.5 (io), 22 P2.4 (io), 23 P2.3 (io), 24 P2.2 (io), 25 P2.1 (io), 26 P2.0 (io), 27 P1.7 (io), 28 P1.6 (io), 29 P1.5 (io), 30 P1.4 (io), 31 P1.3 (io), 32 P1.2 (io), 33 P1.1 (io), 34 P1.0 (io), 35 P0.7/CANRX (io), 36 P0.6/CANTX (io), 37 P0.5/UART0RX (io), 38 P0.4/UART0TX (io), 39 P0.3/XTAL2 (io), 40 P0.2/XTAL1 (io), 41 EP (power)

## C8051F571-AM
designator U?
Mixed Signal 32KB Flash ISP MCU, 2304B RAM, 33 I/Os, 12-Bit 32 Channel ADC, CAN 2.0, Ext Mem, 40-Pin QFN, Automotive Grade; Manufacturer: Silicon Labs; PartNumber: C8051F571-AM; DatasheetVersion: rev1.1, 2011; PackageVersion: 2011; PackageReference: QFN-40; PackageDescription: 40-Pin Quad Flat No-Lead, 6 x 6 x 0.85 mm Body, 0.5 mm Pitch; Code_JEDEC: MO-220-VJJD-5; ComponentLink1Description: Manufacturer URL; ComponentLink1URL: http://www.silabs.com; ComponentLink2Description: Datasheet; ComponentLink2URL: http://www.silabs.com/Support%20Documents/TechnicalDocs/C8051F55x-F56x-F57x.pdf
footprint QFN-40_V (QFN, 40-Leads, Body 6x6mm, Pitch 0.5mm, Thermal Pad 4.15x4.15mm, Silicon Labs Recommended)
pins: 1 P0.1/CNVSTR (io), 2 VIO (power), 3 VREGIN (power), 4 VDD (power), 5 VDDA (power), 6 GND (power), 7 GNDA (power), 8 P0.0/VREF (io), 9 P4.0/C2D (io), 10 ~{RST}/C2CK (io), 11 P3.7 (io), 12 P3.6 (io), 13 P3.5 (io), 14 P3.4 (io), 15 P3.3 (io), 16 P3.2 (io), 17 P3.1 (io), 18 P3.0 (io), 19 P2.7 (io), 20 P2.6 (io), 21 P2.5 (io), 22 P2.4 (io), 23 P2.3 (io), 24 P2.2 (io), 25 P2.1 (io), 26 P2.0 (io), 27 P1.7 (io), 28 P1.6 (io), 29 P1.5 (io), 30 P1.4 (io), 31 P1.3 (io), 32 P1.2 (io), 33 P1.1 (io), 34 P1.0 (io), 35 P0.7/CANRX (io), 36 P0.6/CANTX (io), 37 P0.5/UART0RX (io), 38 P0.4/UART0TX (io), 39 P0.3/XTAL2 (io), 40 P0.2/XTAL1 (io), 41 EP (power)

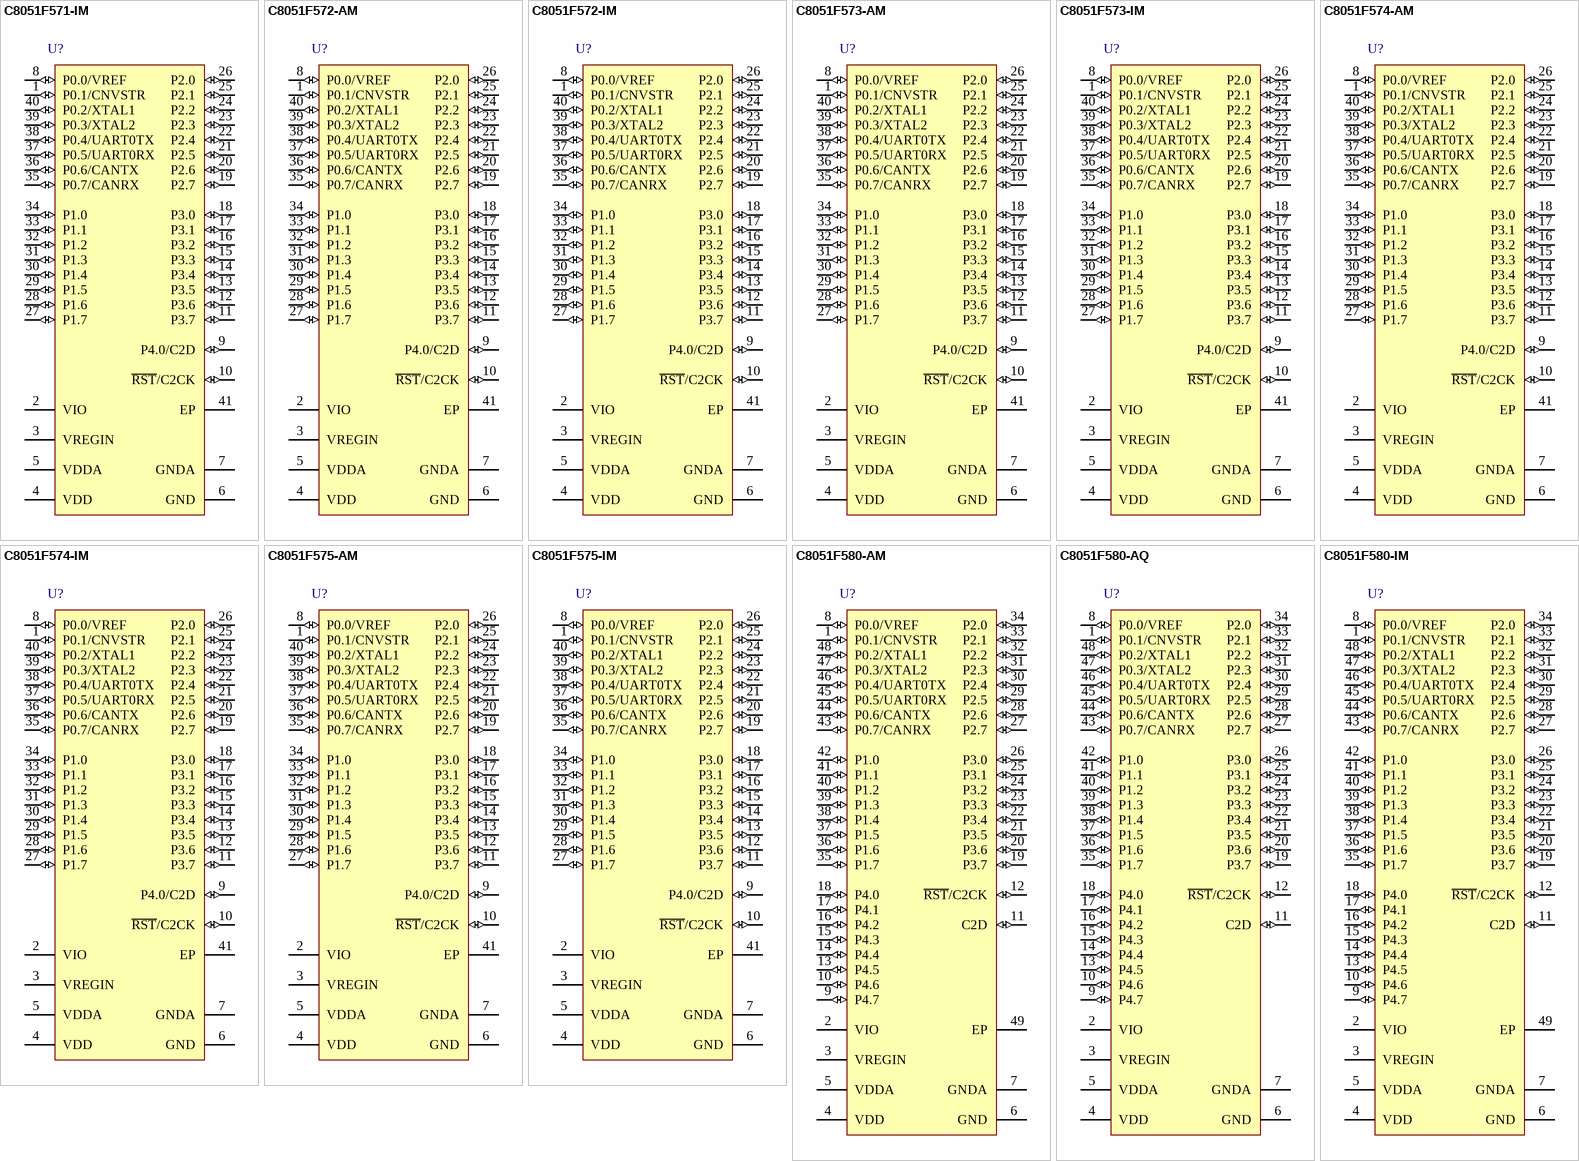
[diagram p10: symbols C8051F571-IM to C8051F580-IM]

## C8051F571-IM
designator U?
Mixed Signal 32KB Flash ISP MCU, 2304B RAM, 33 I/Os, 12-Bit 32 Channel ADC, I2C, Ext Mem, 40-Pin QFN, Industrial Grade; Manufacturer: Silicon Labs; PartNumber: C8051F571-IM; DatasheetVersion: rev1.1, 2011; PackageVersion: 2011; PackageReference: QFN-40; PackageDescription: 40-Pin Quad Flat No-Lead, 6 x 6 x 0.85 mm Body, 0.5 mm Pitch; Supplier 1: Digi-Key; Supplier Part Number 1: 336-1712-5-ND; Supplier 2: Mouser; Supplier Part Number 2: 634-C8051F571-IM; Code_JEDEC: MO-220-VJJD-5; ComponentLink1Description: Manufacturer URL; ComponentLink1URL: http://www.silabs.com; ComponentLink2Description: Datasheet; ComponentLink2URL: http://www.silabs.com/Support%20Documents/TechnicalDocs/C8051F55x-F56x-F57x.pdf
footprint QFN-40_V (QFN, 40-Leads, Body 6x6mm, Pitch 0.5mm, Thermal Pad 4.15x4.15mm, Silicon Labs Recommended)
pins: 1 P0.1/CNVSTR (io), 2 VIO (power), 3 VREGIN (power), 4 VDD (power), 5 VDDA (power), 6 GND (power), 7 GNDA (power), 8 P0.0/VREF (io), 9 P4.0/C2D (io), 10 ~{RST}/C2CK (io), 11 P3.7 (io), 12 P3.6 (io), 13 P3.5 (io), 14 P3.4 (io), 15 P3.3 (io), 16 P3.2 (io), 17 P3.1 (io), 18 P3.0 (io), 19 P2.7 (io), 20 P2.6 (io), 21 P2.5 (io), 22 P2.4 (io), 23 P2.3 (io), 24 P2.2 (io), 25 P2.1 (io), 26 P2.0 (io), 27 P1.7 (io), 28 P1.6 (io), 29 P1.5 (io), 30 P1.4 (io), 31 P1.3 (io), 32 P1.2 (io), 33 P1.1 (io), 34 P1.0 (io), 35 P0.7/CANRX (io), 36 P0.6/CANTX (io), 37 P0.5/UART0RX (io), 38 P0.4/UART0TX (io), 39 P0.3/XTAL2 (io), 40 P0.2/XTAL1 (io), 41 EP (power)

## C8051F572-AM
designator U?
Mixed Signal 16KB Flash ISP MCU, 2304B RAM, 33 I/Os, 12-Bit 32 Channel ADC, CAN 2.0, LIN 2.1, Ext Mem, 40-Pin QFN, Automotive Grade; Manufacturer: Silicon Labs; PartNumber: C8051F572-AM; DatasheetVersion: rev1.1, 2011; PackageVersion: 2011; PackageReference: QFN-40; PackageDescription: 40-Pin Quad Flat No-Lead, 6 x 6 x 0.85 mm Body, 0.5 mm Pitch; Code_JEDEC: MO-220-VJJD-5; ComponentLink1Description: Manufacturer URL; ComponentLink1URL: http://www.silabs.com; ComponentLink2Description: Datasheet; ComponentLink2URL: http://www.silabs.com/Support%20Documents/TechnicalDocs/C8051F55x-F56x-F57x.pdf
footprint QFN-40_V (QFN, 40-Leads, Body 6x6mm, Pitch 0.5mm, Thermal Pad 4.15x4.15mm, Silicon Labs Recommended)
pins: 1 P0.1/CNVSTR (io), 2 VIO (power), 3 VREGIN (power), 4 VDD (power), 5 VDDA (power), 6 GND (power), 7 GNDA (power), 8 P0.0/VREF (io), 9 P4.0/C2D (io), 10 ~{RST}/C2CK (io), 11 P3.7 (io), 12 P3.6 (io), 13 P3.5 (io), 14 P3.4 (io), 15 P3.3 (io), 16 P3.2 (io), 17 P3.1 (io), 18 P3.0 (io), 19 P2.7 (io), 20 P2.6 (io), 21 P2.5 (io), 22 P2.4 (io), 23 P2.3 (io), 24 P2.2 (io), 25 P2.1 (io), 26 P2.0 (io), 27 P1.7 (io), 28 P1.6 (io), 29 P1.5 (io), 30 P1.4 (io), 31 P1.3 (io), 32 P1.2 (io), 33 P1.1 (io), 34 P1.0 (io), 35 P0.7/CANRX (io), 36 P0.6/CANTX (io), 37 P0.5/UART0RX (io), 38 P0.4/UART0TX (io), 39 P0.3/XTAL2 (io), 40 P0.2/XTAL1 (io), 41 EP (power)

## C8051F572-IM
designator U?
Mixed Signal 16KB Flash ISP MCU, 2304B RAM, 33 I/Os, 12-Bit 32 Channel ADC, CAN 2.0, LIN 2.1, Ext Mem, 40-Pin QFN, Industrial Grade; Manufacturer: Silicon Labs; PartNumber: C8051F572-IM; DatasheetVersion: rev1.1, 2011; PackageVersion: 2011; PackageReference: QFN-40; PackageDescription: 40-Pin Quad Flat No-Lead, 6 x 6 x 0.85 mm Body, 0.5 mm Pitch; Supplier 1: Digi-Key; Supplier Part Number 1: 336-1713-5-ND; Supplier 2: Mouser; Supplier Part Number 2: 634-C8051F572-IM; Code_JEDEC: MO-220-VJJD-5; ComponentLink1Description: Manufacturer URL; ComponentLink1URL: http://www.silabs.com; ComponentLink2Description: Datasheet; ComponentLink2URL: http://www.silabs.com/Support%20Documents/TechnicalDocs/C8051F55x-F56x-F57x.pdf
footprint QFN-40_V (QFN, 40-Leads, Body 6x6mm, Pitch 0.5mm, Thermal Pad 4.15x4.15mm, Silicon Labs Recommended)
pins: 1 P0.1/CNVSTR (io), 2 VIO (power), 3 VREGIN (power), 4 VDD (power), 5 VDDA (power), 6 GND (power), 7 GNDA (power), 8 P0.0/VREF (io), 9 P4.0/C2D (io), 10 ~{RST}/C2CK (io), 11 P3.7 (io), 12 P3.6 (io), 13 P3.5 (io), 14 P3.4 (io), 15 P3.3 (io), 16 P3.2 (io), 17 P3.1 (io), 18 P3.0 (io), 19 P2.7 (io), 20 P2.6 (io), 21 P2.5 (io), 22 P2.4 (io), 23 P2.3 (io), 24 P2.2 (io), 25 P2.1 (io), 26 P2.0 (io), 27 P1.7 (io), 28 P1.6 (io), 29 P1.5 (io), 30 P1.4 (io), 31 P1.3 (io), 32 P1.2 (io), 33 P1.1 (io), 34 P1.0 (io), 35 P0.7/CANRX (io), 36 P0.6/CANTX (io), 37 P0.5/UART0RX (io), 38 P0.4/UART0TX (io), 39 P0.3/XTAL2 (io), 40 P0.2/XTAL1 (io), 41 EP (power)

## C8051F573-AM
designator U?
Mixed Signal 16KB Flash ISP MCU, 2304B RAM, 33 I/Os, 12-Bit 32 Channel ADC, CAN 2.0, Ext Mem, 40-Pin QFN, Automotive Grade; Manufacturer: Silicon Labs; PartNumber: C8051F573-AM; DatasheetVersion: rev1.1, 2011; PackageVersion: 2011; PackageReference: QFN-40; PackageDescription: 40-Pin Quad Flat No-Lead, 6 x 6 x 0.85 mm Body, 0.5 mm Pitch; Code_JEDEC: MO-220-VJJD-5; ComponentLink1Description: Manufacturer URL; ComponentLink1URL: http://www.silabs.com; ComponentLink2Description: Datasheet; ComponentLink2URL: http://www.silabs.com/Support%20Documents/TechnicalDocs/C8051F55x-F56x-F57x.pdf
footprint QFN-40_V (QFN, 40-Leads, Body 6x6mm, Pitch 0.5mm, Thermal Pad 4.15x4.15mm, Silicon Labs Recommended)
pins: 1 P0.1/CNVSTR (io), 2 VIO (power), 3 VREGIN (power), 4 VDD (power), 5 VDDA (power), 6 GND (power), 7 GNDA (power), 8 P0.0/VREF (io), 9 P4.0/C2D (io), 10 ~{RST}/C2CK (io), 11 P3.7 (io), 12 P3.6 (io), 13 P3.5 (io), 14 P3.4 (io), 15 P3.3 (io), 16 P3.2 (io), 17 P3.1 (io), 18 P3.0 (io), 19 P2.7 (io), 20 P2.6 (io), 21 P2.5 (io), 22 P2.4 (io), 23 P2.3 (io), 24 P2.2 (io), 25 P2.1 (io), 26 P2.0 (io), 27 P1.7 (io), 28 P1.6 (io), 29 P1.5 (io), 30 P1.4 (io), 31 P1.3 (io), 32 P1.2 (io), 33 P1.1 (io), 34 P1.0 (io), 35 P0.7/CANRX (io), 36 P0.6/CANTX (io), 37 P0.5/UART0RX (io), 38 P0.4/UART0TX (io), 39 P0.3/XTAL2 (io), 40 P0.2/XTAL1 (io), 41 EP (power)

## C8051F573-IM
designator U?
Mixed Signal 16KB Flash ISP MCU, 2304B RAM, 33 I/Os, 12-Bit 32 Channel ADC, CAN 2.0, Ext Mem, 40-Pin QFN, Industrial Grade; Manufacturer: Silicon Labs; PartNumber: C8051F573-IM; DatasheetVersion: rev1.1, 2011; PackageVersion: 2011; PackageReference: QFN-40; PackageDescription: 40-Pin Quad Flat No-Lead, 6 x 6 x 0.85 mm Body, 0.5 mm Pitch; Supplier 1: Digi-Key; Supplier Part Number 1: 336-1714-5-ND; Supplier 2: Mouser; Supplier Part Number 2: 634-C8051F573-IM; Code_JEDEC: MO-220-VJJD-5; ComponentLink1Description: Manufacturer URL; ComponentLink1URL: http://www.silabs.com; ComponentLink2Description: Datasheet; ComponentLink2URL: http://www.silabs.com/Support%20Documents/TechnicalDocs/C8051F55x-F56x-F57x.pdf
footprint QFN-40_V (QFN, 40-Leads, Body 6x6mm, Pitch 0.5mm, Thermal Pad 4.15x4.15mm, Silicon Labs Recommended)
pins: 1 P0.1/CNVSTR (io), 2 VIO (power), 3 VREGIN (power), 4 VDD (power), 5 VDDA (power), 6 GND (power), 7 GNDA (power), 8 P0.0/VREF (io), 9 P4.0/C2D (io), 10 ~{RST}/C2CK (io), 11 P3.7 (io), 12 P3.6 (io), 13 P3.5 (io), 14 P3.4 (io), 15 P3.3 (io), 16 P3.2 (io), 17 P3.1 (io), 18 P3.0 (io), 19 P2.7 (io), 20 P2.6 (io), 21 P2.5 (io), 22 P2.4 (io), 23 P2.3 (io), 24 P2.2 (io), 25 P2.1 (io), 26 P2.0 (io), 27 P1.7 (io), 28 P1.6 (io), 29 P1.5 (io), 30 P1.4 (io), 31 P1.3 (io), 32 P1.2 (io), 33 P1.1 (io), 34 P1.0 (io), 35 P0.7/CANRX (io), 36 P0.6/CANTX (io), 37 P0.5/UART0RX (io), 38 P0.4/UART0TX (io), 39 P0.3/XTAL2 (io), 40 P0.2/XTAL1 (io), 41 EP (power)

## C8051F574-AM
designator U?
Mixed Signal 16KB Flash ISP MCU, 2304B RAM, 33 I/Os, 12-Bit 32 Channel ADC, LIN 2.1, Ext Mem, 40-Pin QFN, Automotive Grade; Manufacturer: Silicon Labs; PartNumber: C8051F574-AM; DatasheetVersion: rev1.1, 2011; PackageVersion: 2011; PackageReference: QFN-40; PackageDescription: 40-Pin Quad Flat No-Lead, 6 x 6 x 0.85 mm Body, 0.5 mm Pitch; Code_JEDEC: MO-220-VJJD-5; ComponentLink1Description: Manufacturer URL; ComponentLink1URL: http://www.silabs.com; ComponentLink2Description: Datasheet; ComponentLink2URL: http://www.silabs.com/Support%20Documents/TechnicalDocs/C8051F55x-F56x-F57x.pdf
footprint QFN-40_V (QFN, 40-Leads, Body 6x6mm, Pitch 0.5mm, Thermal Pad 4.15x4.15mm, Silicon Labs Recommended)
pins: 1 P0.1/CNVSTR (io), 2 VIO (power), 3 VREGIN (power), 4 VDD (power), 5 VDDA (power), 6 GND (power), 7 GNDA (power), 8 P0.0/VREF (io), 9 P4.0/C2D (io), 10 ~{RST}/C2CK (io), 11 P3.7 (io), 12 P3.6 (io), 13 P3.5 (io), 14 P3.4 (io), 15 P3.3 (io), 16 P3.2 (io), 17 P3.1 (io), 18 P3.0 (io), 19 P2.7 (io), 20 P2.6 (io), 21 P2.5 (io), 22 P2.4 (io), 23 P2.3 (io), 24 P2.2 (io), 25 P2.1 (io), 26 P2.0 (io), 27 P1.7 (io), 28 P1.6 (io), 29 P1.5 (io), 30 P1.4 (io), 31 P1.3 (io), 32 P1.2 (io), 33 P1.1 (io), 34 P1.0 (io), 35 P0.7/CANRX (io), 36 P0.6/CANTX (io), 37 P0.5/UART0RX (io), 38 P0.4/UART0TX (io), 39 P0.3/XTAL2 (io), 40 P0.2/XTAL1 (io), 41 EP (power)

## C8051F574-IM
designator U?
Mixed Signal 16KB Flash ISP MCU, 2304B RAM, 33 I/Os, 12-Bit 32 Channel ADC, I2C, LIN 2.1, Ext Mem, 40-Pin QFN, Industrial Grade; Manufacturer: Silicon Labs; PartNumber: C8051F574-IM; DatasheetVersion: rev1.1, 2011; PackageVersion: 2011; PackageReference: QFN-40; PackageDescription: 40-Pin Quad Flat No-Lead, 6 x 6 x 0.85 mm Body, 0.5 mm Pitch; Supplier 1: Digi-Key; Supplier Part Number 1: 336-1715-5-ND; Supplier 2: Mouser; Supplier Part Number 2: 634-C8051F574-IM; Code_JEDEC: MO-220-VJJD-5; ComponentLink1Description: Manufacturer URL; ComponentLink1URL: http://www.silabs.com; ComponentLink2Description: Datasheet; ComponentLink2URL: http://www.silabs.com/Support%20Documents/TechnicalDocs/C8051F55x-F56x-F57x.pdf
footprint QFN-40_V (QFN, 40-Leads, Body 6x6mm, Pitch 0.5mm, Thermal Pad 4.15x4.15mm, Silicon Labs Recommended)
pins: 1 P0.1/CNVSTR (io), 2 VIO (power), 3 VREGIN (power), 4 VDD (power), 5 VDDA (power), 6 GND (power), 7 GNDA (power), 8 P0.0/VREF (io), 9 P4.0/C2D (io), 10 ~{RST}/C2CK (io), 11 P3.7 (io), 12 P3.6 (io), 13 P3.5 (io), 14 P3.4 (io), 15 P3.3 (io), 16 P3.2 (io), 17 P3.1 (io), 18 P3.0 (io), 19 P2.7 (io), 20 P2.6 (io), 21 P2.5 (io), 22 P2.4 (io), 23 P2.3 (io), 24 P2.2 (io), 25 P2.1 (io), 26 P2.0 (io), 27 P1.7 (io), 28 P1.6 (io), 29 P1.5 (io), 30 P1.4 (io), 31 P1.3 (io), 32 P1.2 (io), 33 P1.1 (io), 34 P1.0 (io), 35 P0.7/CANRX (io), 36 P0.6/CANTX (io), 37 P0.5/UART0RX (io), 38 P0.4/UART0TX (io), 39 P0.3/XTAL2 (io), 40 P0.2/XTAL1 (io), 41 EP (power)

## C8051F575-AM
designator U?
Mixed Signal 16KB Flash ISP MCU, 2304B RAM, 33 I/Os, 12-Bit 32 Channel ADC, SPI, Ext Mem, 40-Pin QFN, Automotive Grade; Manufacturer: Silicon Labs; PartNumber: C8051F575-AM; DatasheetVersion: rev1.1, 2011; PackageVersion: 2011; PackageReference: QFN-40; PackageDescription: 40-Pin Quad Flat No-Lead, 6 x 6 x 0.85 mm Body, 0.5 mm Pitch; Code_JEDEC: MO-220-VJJD-5; ComponentLink1Description: Manufacturer URL; ComponentLink1URL: http://www.silabs.com; ComponentLink2Description: Datasheet; ComponentLink2URL: http://www.silabs.com/Support%20Documents/TechnicalDocs/C8051F55x-F56x-F57x.pdf
footprint QFN-40_V (QFN, 40-Leads, Body 6x6mm, Pitch 0.5mm, Thermal Pad 4.15x4.15mm, Silicon Labs Recommended)
pins: 1 P0.1/CNVSTR (io), 2 VIO (power), 3 VREGIN (power), 4 VDD (power), 5 VDDA (power), 6 GND (power), 7 GNDA (power), 8 P0.0/VREF (io), 9 P4.0/C2D (io), 10 ~{RST}/C2CK (io), 11 P3.7 (io), 12 P3.6 (io), 13 P3.5 (io), 14 P3.4 (io), 15 P3.3 (io), 16 P3.2 (io), 17 P3.1 (io), 18 P3.0 (io), 19 P2.7 (io), 20 P2.6 (io), 21 P2.5 (io), 22 P2.4 (io), 23 P2.3 (io), 24 P2.2 (io), 25 P2.1 (io), 26 P2.0 (io), 27 P1.7 (io), 28 P1.6 (io), 29 P1.5 (io), 30 P1.4 (io), 31 P1.3 (io), 32 P1.2 (io), 33 P1.1 (io), 34 P1.0 (io), 35 P0.7/CANRX (io), 36 P0.6/CANTX (io), 37 P0.5/UART0RX (io), 38 P0.4/UART0TX (io), 39 P0.3/XTAL2 (io), 40 P0.2/XTAL1 (io), 41 EP (power)

## C8051F575-IM
designator U?
Mixed Signal 16KB Flash ISP MCU, 2304B RAM, 33 I/Os, 12-Bit 32 Channel ADC, I2C, Ext Mem, 40-Pin QFN, Industrial Grade; Manufacturer: Silicon Labs; PartNumber: C8051F575-IM; DatasheetVersion: rev1.1, 2011; PackageVersion: 2011; PackageReference: QFN-40; PackageDescription: 40-Pin Quad Flat No-Lead, 6 x 6 x 0.85 mm Body, 0.5 mm Pitch; Supplier 1: Digi-Key; Supplier Part Number 1: 336-1716-5-ND; Supplier 2: Mouser; Supplier Part Number 2: 634-C8051F575-IM; Code_JEDEC: MO-220-VJJD-5; ComponentLink1Description: Manufacturer URL; ComponentLink1URL: http://www.silabs.com; ComponentLink2Description: Datasheet; ComponentLink2URL: http://www.silabs.com/Support%20Documents/TechnicalDocs/C8051F55x-F56x-F57x.pdf
footprint QFN-40_V (QFN, 40-Leads, Body 6x6mm, Pitch 0.5mm, Thermal Pad 4.15x4.15mm, Silicon Labs Recommended)
pins: 1 P0.1/CNVSTR (io), 2 VIO (power), 3 VREGIN (power), 4 VDD (power), 5 VDDA (power), 6 GND (power), 7 GNDA (power), 8 P0.0/VREF (io), 9 P4.0/C2D (io), 10 ~{RST}/C2CK (io), 11 P3.7 (io), 12 P3.6 (io), 13 P3.5 (io), 14 P3.4 (io), 15 P3.3 (io), 16 P3.2 (io), 17 P3.1 (io), 18 P3.0 (io), 19 P2.7 (io), 20 P2.6 (io), 21 P2.5 (io), 22 P2.4 (io), 23 P2.3 (io), 24 P2.2 (io), 25 P2.1 (io), 26 P2.0 (io), 27 P1.7 (io), 28 P1.6 (io), 29 P1.5 (io), 30 P1.4 (io), 31 P1.3 (io), 32 P1.2 (io), 33 P1.1 (io), 34 P1.0 (io), 35 P0.7/CANRX (io), 36 P0.6/CANTX (io), 37 P0.5/UART0RX (io), 38 P0.4/UART0TX (io), 39 P0.3/XTAL2 (io), 40 P0.2/XTAL1 (io), 41 EP (power)

## C8051F580-AM
designator U?
Mixed Signal 128KB ISP Flash MCU, 8448B RAM, 40 I/Os, 12-Bit 32 Channel ADC, CAN 2.0, LIN 2.1, 48-Pin QFN, Automotive Grade; Manufacturer: Silicon Labs; PartNumber: C8051F580-AM; DatasheetVersion: rev1.2, 2011; PackageVersion: 2011; PackageReference: QFN-48; PackageDescription: 48-Pin Quad Flat No-Lead, 7 x 7 x 0.9 mm Body, 0.5 mm Pitch; Code_JEDEC: MO-220-VKKD-4; ComponentLink1Description: Manufacturer URL; ComponentLink1URL: http://www.silabs.com; ComponentLink2Description: Datasheet; ComponentLink2URL: http://www.silabs.com/Support%20Documents/TechnicalDocs/C8051F58x-59x.pdf
footprint QFN-48_V (QFN, 48-Leads, Body 7x7mm, Pitch 0.5mm, Thermal Pad 4.05x4.05mm, Silicon Labs Recommended)
pins: 1 P0.1/CNVSTR (io), 2 VIO (power), 3 VREGIN (power), 4 VDD (power), 5 VDDA (power), 6 GND (power), 7 GNDA (power), 8 P0.0/VREF (io), 9 P4.7 (io), 10 P4.6 (io), 11 C2D (io), 12 ~{RST}/C2CK (io), 13 P4.5 (io), 14 P4.4 (io), 15 P4.3 (io), 16 P4.2 (io), 17 P4.1 (io), 18 P4.0 (io), 19 P3.7 (io), 20 P3.6 (io), 21 P3.5 (io), 22 P3.4 (io), 23 P3.3 (io), 24 P3.2 (io), 25 P3.1 (io), 26 P3.0 (io), 27 P2.7 (io), 28 P2.6 (io), 29 P2.5 (io), 30 P2.4 (io), 31 P2.3 (io), 32 P2.2 (io), 33 P2.1 (io), 34 P2.0 (io), 35 P1.7 (io), 36 P1.6 (io), 37 P1.5 (io), 38 P1.4 (io), 39 P1.3 (io), 40 P1.2 (io), 41 P1.1 (io), 42 P1.0 (io), 43 P0.7/CANRX (io), 44 P0.6/CANTX (io), 45 P0.5/UART0RX (io), 46 P0.4/UART0TX (io), 47 P0.3/XTAL2 (io), 48 P0.2/XTAL1 (io), 49 EP (power)

## C8051F580-AQ
designator U?
Mixed Signal 128KB ISP Flash MCU, 8448B RAM, 40 I/Os, 12-Bit 32 Channel ADC, CAN 2.0, LIN 2.1, 48-Pin QFP, Automotive Grade; Manufacturer: Silicon Labs; PartNumber: C8051F580-AQ; DatasheetVersion: rev1.2, 2011; PackageVersion: 2011; PackageReference: QFP-48; PackageDescription: 48-Pin Thin Quad Flat Pack, 7 x 7 x 1 mm Body, 0.5 mm Pitch; Code_JEDEC: MS-026-ABC; ComponentLink1Description: Manufacturer URL; ComponentLink1URL: http://www.silabs.com; ComponentLink2Description: Datasheet; ComponentLink2URL: http://www.silabs.com/Support%20Documents/TechnicalDocs/C8051F58x-59x.pdf
footprint QFP-48_N (Thin QFP, 48-Leads, Body 7x7mm, Pitch 0.5mm, IPC Medium Density)
footprint QFP-48_L (Thin QFP, 48-Leads, Body 7x7mm, Pitch 0.5mm, IPC High Density)
footprint QFP-48_M (Thin QFP, 48-Leads, Body 7x7mm, Pitch 0.5mm, IPC Low Density)
pins: 1 P0.1/CNVSTR (io), 2 VIO (power), 3 VREGIN (power), 4 VDD (power), 5 VDDA (power), 6 GND (power), 7 GNDA (power), 8 P0.0/VREF (io), 9 P4.7 (io), 10 P4.6 (io), 11 C2D (io), 12 ~{RST}/C2CK (io), 13 P4.5 (io), 14 P4.4 (io), 15 P4.3 (io), 16 P4.2 (io), 17 P4.1 (io), 18 P4.0 (io), 19 P3.7 (io), 20 P3.6 (io), 21 P3.5 (io), 22 P3.4 (io), 23 P3.3 (io), 24 P3.2 (io), 25 P3.1 (io), 26 P3.0 (io), 27 P2.7 (io), 28 P2.6 (io), 29 P2.5 (io), 30 P2.4 (io), 31 P2.3 (io), 32 P2.2 (io), 33 P2.1 (io), 34 P2.0 (io), 35 P1.7 (io), 36 P1.6 (io), 37 P1.5 (io), 38 P1.4 (io), 39 P1.3 (io), 40 P1.2 (io), 41 P1.1 (io), 42 P1.0 (io), 43 P0.7/CANRX (io), 44 P0.6/CANTX (io), 45 P0.5/UART0RX (io), 46 P0.4/UART0TX (io), 47 P0.3/XTAL2 (io), 48 P0.2/XTAL1 (io)